# Altium integrated library HY2213-BB3A.IntLib: 1 symbol
Pins are listed as number, name and electrical type; pins without a type are passive.

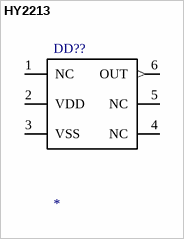
[diagram p0: symbol HY2213]

## HY2213
designator DD??
1 Cell Li-ion/Polymer Battery Charge Balance IC
footprint SOT23-6
pins: 1 NC (hiz), 2 VDD (power), 3 VSS (power), 4 NC (hiz), 5 NC (hiz), 6 OUT (out)